# Altium integrated library MPU-6050.IntLib: 1 symbol
Pins are listed as number, name and electrical type; pins without a type are passive.

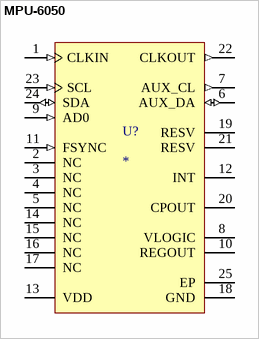
[diagram p0: symbol MPU-6050]

## MPU-6050
designator U?
MPU-6050 series Accelerometer, Gyroscope, 3 Axis Sensor Evaluation Board; MF: TDK InvenSense; SnapEDA_Link: https://www.snapeda.com/parts/MPU-6050/TDK+InvenSense/view-part/?ref=snap; Package: QFN-24 InvenSense; Value: *; MP: MPU-6050; Check_prices: https://www.snapeda.com/parts/MPU-6050/TDK+InvenSense/view-part/?ref=eda; Supplier 1: Digikey; Supplier Part Number 1: 1428-1007-1-ND
footprint QFN50P400X400X95-24N
pins: 1 CLKIN (in) "Optional external reference clock input. Connect to GND if unused.", 2 NC "Not internally connected. May be used for PCB trace routing", 3 NC "Not internally connected. May be used for PCB trace routing", 4 NC "Not internally connected. May be used for PCB trace routing", 5 NC "Not internally connected. May be used for PCB trace routing", 6 AUX_DA (io) "I2C master serial data, for connecting to external sensors", 7 AUX_CL (out) "I2C Master serial clock, for connecting to external sensors", 8 VLOGIC (power) "Digital I/O supply voltage", 9 AD0 (in) "I2C Slave Address LSB (AD0)", 10 REGOUT "Regulator filter capacitor connection", 11 FSYNC (in) "Frame synchronization digital input. Connect to GND if unused.", 12 INT (oc) "Interrupt digital output (totem pole or open-drain)", 13 VDD (power) "Power supply voltage and Digital I/O supply voltage", 14 NC "Not internally connected. May be used for PCB trace routing", 15 NC "Not internally connected. May be used for PCB trace routing", 16 NC "Not internally connected. May be used for PCB trace routing", 17 NC "Not internally connected. May be used for PCB trace routing", 18 GND (power) "Power supply ground", 19 RESV "Reserved. Do not connect", 20 CPOUT "Charge pump capacitor connection", 21 RESV "Reserved. Do not connect", 22 CLKOUT (out) "System clock output", 23 SCL (in) "System clock output  I2C serial clock (SCL)", 24 SDA (io) "I2C serial data (SDA)", 25 EP (power) "Exposed Pad"